# Altium footprint library Unclassified Packages.PcbLib: 12 footprints
Each footprint in its own frame and in the unit in brackets; x right, y up, seen from the top. Pads: shape width x height; smd on the part's side, far side on the other; paste and mask are expansions set on the pad; w line width, h text height; cw(c..) or ccw(c..) is an arc to the next point about the centre after c.
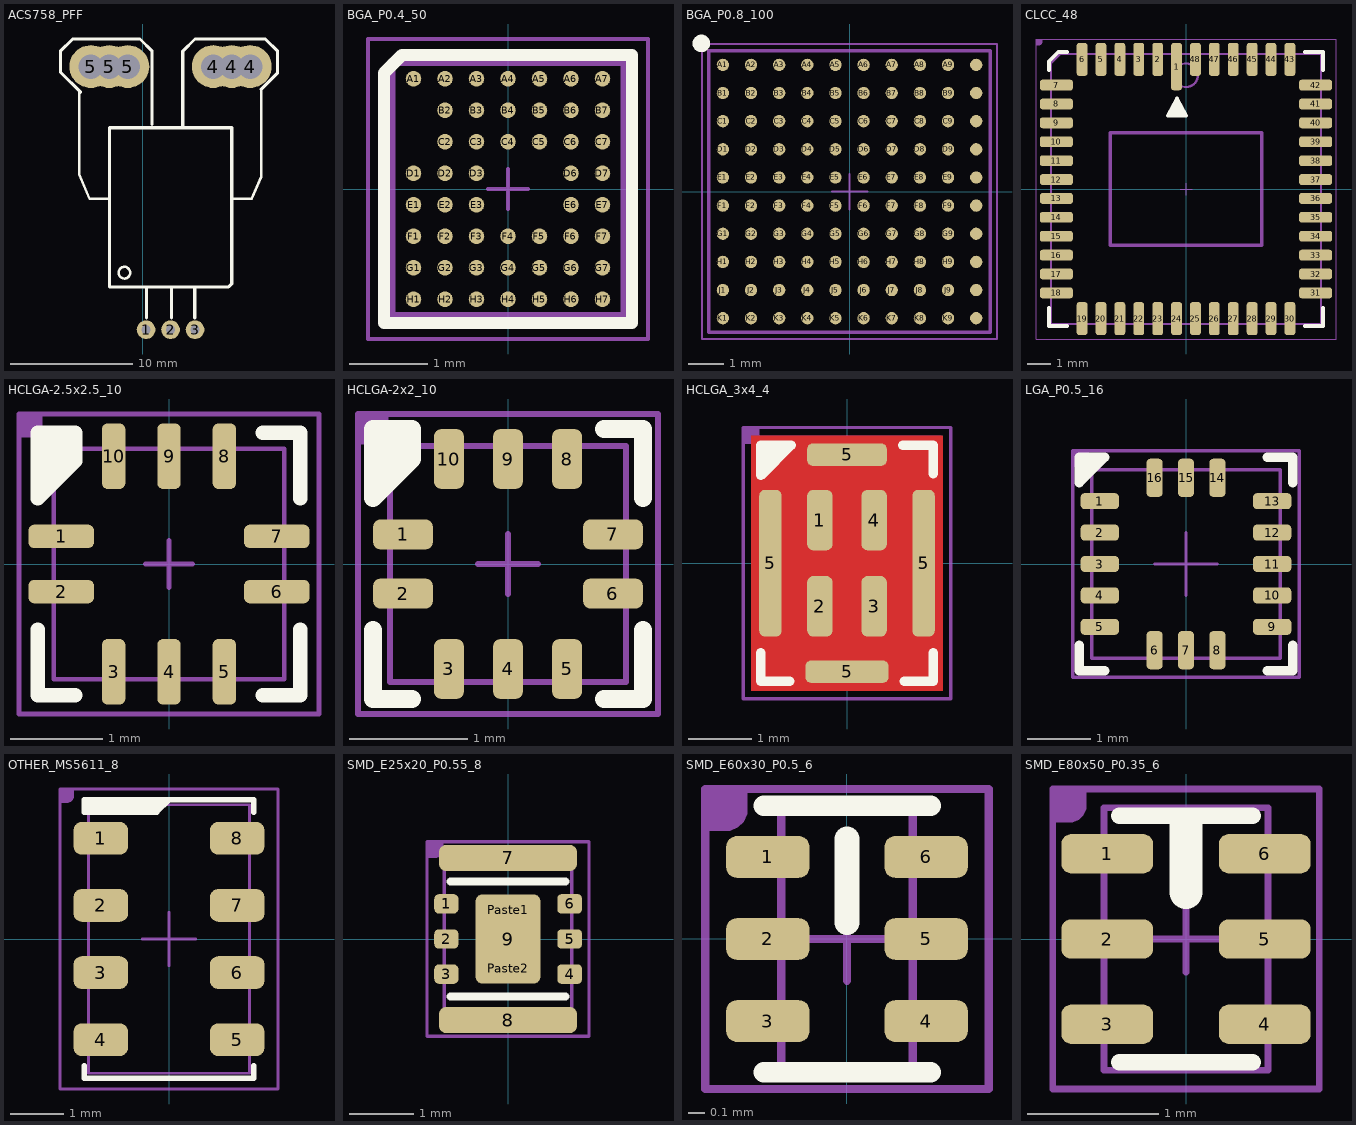
[diagram p0: the footprints below, top view; thin cyan lines are the x and y axes]

## ACS758_PFF [mm]
pads (9):
  round 1.524 hole 0.762: 1(0.25,-34.5) 2(2.25,-34.5) 3(4.25,-34.5)
  oval 3.524x3.5 hole 2: 4(5.75,-13) 4(7.25,-13) 4(8.75,-13) 5(-4.25,-13) 5(-2.75,-13) 5(-1.25,-13)
Top Overlay:
  circle w0.203: c-1.524,-29.845 r0.478
  lines w0.203: -5.207,-14.933 -5.207,-21.816 -4.366,-23.808 -2.866,-23.808 ; 7.369,-23.791 8.894,-23.791 9.652,-21.996 9.652,-14.859
  lines w0.254: -5.5,-14 -5.25,-14.25 ; -5.096,-15.097 -6.75,-13.443 -6.75,-11.75 -5.75,-10.75 -0.25,-10.75 0.75,-11.75 0.75,-17.75 ; 0.28,-33.522 0.28,-31.147 ; 2.317,-33.522 2.317,-31.147 ; 3.25,-18 3.25,-11.75 4.25,-10.75 10,-10.75 11,-11.75 11,-13.511 9.652,-14.859 ; 4.227,-33.522 4.227,-31.147 ; -2.75,-31 7,-31 7.25,-30.75 7.25,-18 -2.75,-18 -2.75,-31
3D body "User Library-ACS758xCB-PFF.STEP": height 8.5, standoff -1.98, extent -4.75,-34.66 9.25,-12.25

## BGA_P0.4_50 [mm]
height 0.4
pads (50):
  round 0.198 smd: A1(-1.2,1.4) A2(-0.8,1.4) A3(-0.4,1.4) A4(0,1.4) A5(0.4,1.4) A6(0.8,1.4) A7(1.2,1.4) B2(-0.8,1) B3(-0.4,1) B4(0,1) B5(0.4,1) B6(0.8,1) B7(1.2,1) C2(-0.8,0.6) C3(-0.4,0.6) C4(0,0.6) C5(0.4,0.6) C6(0.8,0.6) C7(1.2,0.6) D1(-1.2,0.2) D2(-0.8,0.2) D3(-0.4,0.2) D6(0.8,0.2) D7(1.2,0.2) E1(-1.2,-0.2) E2(-0.8,-0.2) E3(-0.4,-0.2) E6(0.8,-0.2) E7(1.2,-0.2) F1(-1.2,-0.6) F2(-0.8,-0.6) F3(-0.4,-0.6) F4(0,-0.6) F5(0.4,-0.6) F6(0.8,-0.6) F7(1.2,-0.6) G1(-1.2,-1) G2(-0.8,-1) G3(-0.4,-1) G4(0,-1) G5(0.4,-1) G6(0.8,-1) G7(1.2,-1) H1(-1.2,-1.4) H2(-0.8,-1.4) H3(-0.4,-1.4) H4(0,-1.4) H5(0.4,-1.4) H6(0.8,-1.4) H7(1.2,-1.4)
Top Overlay:
  lines w0.152: -1.575,-1.702 -1.575,1.473 -1.346,1.702 1.575,1.702 1.575,-1.702 -1.575,-1.702
Mechanical 13:
  lines w0.051: -0.254,0 0.254,0 ; 0,-0.254 0,0.254
  lines w0.1: -1.48,-1.615 -1.48,1.615 1.48,1.615 1.48,-1.615 -1.48,-1.615
Mechanical 14:
  lines w0.051: -1.778,-1.905 -1.778,1.905 1.778,1.905 1.778,-1.905 -1.778,-1.905
3D body "BGA56C40P7X8_296X323X40.step": height 0.4, standoff 0, extent -1.48,-1.615 1.48,1.615

## BGA_P0.8_100 [mm]
height 1.1
pads (100):
  round 0.35 smd: A1(-3.6,3.6) A2(-2.8,3.6) A3(-2,3.6) A4(-1.2,3.6) A5(-0.4,3.6) A6(0.4,3.6) A7(1.2,3.6) A8(2,3.6) A9(2.8,3.6) A10(3.6,3.6) B1(-3.6,2.8) B2(-2.8,2.8) B3(-2,2.8) B4(-1.2,2.8) B5(-0.4,2.8) B6(0.4,2.8) B7(1.2,2.8) B8(2,2.8) B9(2.8,2.8) B10(3.6,2.8) C1(-3.6,2) C2(-2.8,2) C3(-2,2) C4(-1.2,2) C5(-0.4,2) C6(0.4,2) C7(1.2,2) C8(2,2) C9(2.8,2) C10(3.6,2) D1(-3.6,1.2) D2(-2.8,1.2) D3(-2,1.2) D4(-1.2,1.2) D5(-0.4,1.2) D6(0.4,1.2) D7(1.2,1.2) D8(2,1.2) D9(2.8,1.2) D10(3.6,1.2) E1(-3.6,0.4) E2(-2.8,0.4) E3(-2,0.4) E4(-1.2,0.4) E5(-0.4,0.4) E6(0.4,0.4) E7(1.2,0.4) E8(2,0.4) E9(2.8,0.4) E10(3.6,0.4) F1(-3.6,-0.4) F2(-2.8,-0.4) F3(-2,-0.4) F4(-1.2,-0.4) F5(-0.4,-0.4) F6(0.4,-0.4) F7(1.2,-0.4) F8(2,-0.4) F9(2.8,-0.4) F10(3.6,-0.4) G1(-3.6,-1.2) G2(-2.8,-1.2) G3(-2,-1.2) G4(-1.2,-1.2) G5(-0.4,-1.2) G6(0.4,-1.2) G7(1.2,-1.2) G8(2,-1.2) G9(2.8,-1.2) G10(3.6,-1.2) H1(-3.6,-2) H2(-2.8,-2) H3(-2,-2) H4(-1.2,-2) H5(-0.4,-2) H6(0.4,-2) H7(1.2,-2) H8(2,-2) H9(2.8,-2) H10(3.6,-2) J1(-3.6,-2.8) J2(-2.8,-2.8) J3(-2,-2.8) J4(-1.2,-2.8) J5(-0.4,-2.8) J6(0.4,-2.8) J7(1.2,-2.8) J8(2,-2.8) J9(2.8,-2.8) J10(3.6,-2.8) K1(-3.6,-3.6) K2(-2.8,-3.6) K3(-2,-3.6) K4(-1.2,-3.6) K5(-0.4,-3.6) K6(0.4,-3.6) K7(1.2,-3.6) K8(2,-3.6) K9(2.8,-3.6) K10(3.6,-3.6)
Top Overlay:
  circle w0.25: c-4.21,4.21 r0.125
Mechanical 13:
  lines w0.1: -4,-4 -4,4 4,4 4,-4 -4,-4
Mechanical 14:
  lines w0.051: -0.508,0 0.508,0 ; 0,-0.508 0,0.508 ; -4.191,-4.191 -4.191,4.191 4.191,4.191 4.191,-4.191 -4.191,-4.191
3D body "BGA100C80P10X10_800X800X110.step": height 1.1, standoff 0, extent -4,-4 4,4

## CLCC_48 [mil]
height 90.55
pads (48):
  rrect50% 18x79 smd: 1(-15.75,204)
  rrect50% 18x55 smd: 2(-47.24,216) 3(-78.74,216) 4(-110.24,216) 5(-141.73,216) 6(-173.23,216) 19(-173.23,-216) 20(-141.73,-216) 21(-110.24,-216) 22(-78.74,-216) 23(-47.24,-216) 24(-15.75,-216) 25(15.75,-216) 26(47.24,-216) 27(78.74,-216) 28(110.24,-216) 29(141.73,-216) 30(173.23,-216) 43(173.23,216) 44(141.73,216) 45(110.24,216) 46(78.74,216) 47(47.24,216) 48(15.75,216)
  rrect50% 55x18 smd: 7(-216,173.23) 8(-216,141.73) 9(-216,110.24) 10(-216,78.74) 11(-216,47.24) 12(-216,15.75) 13(-216,-15.75) 14(-216,-47.24) 15(-216,-78.74) 16(-216,-110.24) 17(-216,-141.73) 18(-216,-173.23) 31(216,-173.23) 32(216,-141.73) 33(216,-110.24) 34(216,-78.74) 35(216,-47.24) 36(216,-15.75) 37(216,15.75) 38(216,47.24) 39(216,78.74) 40(216,110.24) 41(216,141.73) 42(216,173.23)
Top Overlay:
  region: -15,151 -30.26,122 0.26,122
  lines w6: -228.35,-197.83 -228.35,-228.35 -197.83,-228.35 ; -228.35,197.83 -228.35,213.09 -213.09,228.35 -197.83,228.35 ; 197.83,-228.35 228.35,-228.35 228.35,-197.83 ; 197.83,228.35 228.35,228.35 228.35,197.83 ; -30.26,122 0.26,122 -15,151 -30.26,122
Mechanical 13:
  circle w3.94: c0,189.57 r19.68
  lines w2: -10,0 10,0 ; 0,-10 0,10
  lines w3.94: -225,-225 -225,209.74 -209.74,225 225,225 225,-225 -225,-225
  lines w6: -126,-94 -126,94 126,94 126,-94 -126,-94
Mechanical 14:
  region: -250,250 -240,250 -240,245 -240,244.01 -240.76,242.17 -242.17,240.76 -244.01,240 -245,240 -250,240
  lines w2: -250,-250 250,-250 250,250 -250,250 -250,-250
  text ".Designator" at -41,-25 h100
3D body "User Library-CLCC48.STEP": height 79.69, standoff 0, extent -250,-250 250,250

## HCLGA-2.5x2.5_10 [mil]
height 31.5
pads (10):
  rrect50% 28x10 smd: 1(-46,11.81) 2(-46,-11.81) 6(46,-11.81) 7(46,11.81)
  rrect50% 10x28 smd: 3(-23.62,-46) 4(0,-46) 5(23.62,-46) 8(23.62,46) 9(0,46) 10(-23.62,46)
Top Overlay:
  region: -40,44 -40,56 -56,56 -56,28
  lines w6: -56,-28 -56,-56 -40,-56 ; 40,-56 56,-56 56,-28 ; 40,56 56,56 56,28 ; -56,28 -40,44 -40,56 -56,56 -56,28
Top Solder:
  rectangle: -23.62,32 23.62,60
  region: 23.62,-32 -23.62,-32 -23.62,-60 23.62,-60
  region: 60,-11.81 60,11.81 32,11.81 32,-11.81
  region: -32,-11.81 -32,11.81 -60,11.81 -60,-11.81
Mechanical 13:
  lines w2: -10,0 10,0 ; 0,-10 0,10 ; -49.21,-49.21 -49.21,49.22 49.22,49.22 49.22,-49.21 -49.21,-49.21
Mechanical 14:
  region: -64,64 -54,64 -54,59 -54,58.01 -54.76,56.17 -56.17,54.76 -58.01,54 -59,54 -64,54
  lines w2: -64,-64 -64,64 64,64 64,-64 -64,-64
  text ".Designator" at -41,-25 h100
3D body "PQFN60P250X250X80-10N.step": height 31.5, standoff -0.04, extent -49.21,-49.21 49.22,49.22

## HCLGA-2x2_10 [mil]
height 31.5
pads (10):
  rrect50% 20x10 smd: 1(-35,9.84) 2(-35,-9.84) 6(35,-9.84) 7(35,9.84)
  rrect50% 10x20 smd: 3(-19.68,-35) 4(0,-35) 5(19.68,-35) 8(19.68,35) 9(0,35) 10(-19.68,35)
Top Overlay:
  region: -32,45 -45,45 -45,22 -32,35
  lines w6: -45,-22 -45,-45 -32,-45 ; 32,-45 45,-45 45,-22 ; 32,45 45,45 45,22 ; -45,22 -32,35 -32,45 -45,45 -45,22
Top Solder:
  rectangle: -19.68,-45 19.68,-25
  region: 19.68,45 -19.68,45 -19.68,25 19.68,25
  region: 45,-9.84 45,9.84 25,9.84 25,-9.84
  region: -25,-9.84 -25,9.84 -45,9.84 -45,-9.84
Mechanical 13:
  lines w2: -10,0 10,0 ; 0,-10 0,10 ; -39.37,-39.37 39.37,-39.37 39.37,39.37 -39.37,39.37 -39.37,-39.37
Mechanical 14:
  region: -50,50 -40,50 -40,45 -40,44.01 -40.76,42.17 -42.17,40.76 -44.01,40 -45,40 -50,40
  lines w2: -50,-50 50,-50 50,50 -50,50 -50,-50
  text ".Designator" at -41,-25 h100
3D body "PQFN50P200X200X80-10N.step": height 31.5, standoff -0.04, extent -39.37,-39.37 39.37,39.37

## HCLGA_3x4_4 [mil]
pads (8):
  rrect50% 16x38 smd: 1(-17,27) 2(-17,-27) 3(17,-27) 4(17,27)
  rrect50% 14x92 smd: 5(-48,0) 5(48,0)
  rrect50% 52x14 smd: 5(0,-68)
  rrect50% 50x14 smd: 5(0,68)
Top Layer:
  pour cut-out: -60,80 60,80 60,-80 -60,-80
Top Overlay:
  region: -54,74 -35,74 -54,55
  lines w6: -54,-56 -54,-74 -36,-74 ; 35,74 54,74 54,56 ; 36,-74 54,-74 54,-56 ; -54,55 -54,74 -35,74 -54,55
Mechanical 13:
  lines w2: -10,0 10,0 ; 0,-10 0,10 ; -59,-79 59,-79 59,79 -59,79 -59,-79
Mechanical 14:
  region: -65,85 -55,85 -55,80 -55,79.01 -55.76,77.17 -57.17,75.76 -59.01,75 -60,75 -65,75
  lines w2: -65,-85 -65,85 65,85 65,-85 -65,-85
  text ".Designator" at -41,-25 h100
3D body "User Library-DFN12(3x4).STEP": height 29.92, standoff 0, extent -59.08,-78.74 59.1,78.74

## LGA_P0.5_16 [mil]
height 29.53
pads (16):
  rrect50% 24x10 smd: 1(-54,39.37) 2(-54,19.68) 3(-54,0) 4(-54,-19.68) 5(-54,-39.37) 9(54,-39.37) 10(54,-19.68) 11(54,0) 12(54,19.68) 13(54,39.37)
  rrect50% 10x24 smd: 6(-19.68,-54) 7(0,-54) 8(19.68,-54) 14(19.68,54) 15(0,54) 16(-19.68,54)
Top Overlay:
  region: -67,67 -51,67 -67,51
  lines w6: -67,-51 -67,-67 -51,-67 ; 51,-67 67,-67 67,-51 ; 51,67 67,67 67,51 ; -67,51 -67,67 -51,67 -67,51
Top Solder:
  region: 20,-41 -20,-41 -20,-67 20,-67
  region: -41,-40 -41,40 -67,40 -67,-40
  region: 41,40 41,-40 67,-40 67,40
  rectangle: -20,41 20,67
Mechanical 13:
  lines w2: -19.68,0 19.68,0 ; 0,-19.68 0,19.68 ; -59.06,-59.06 59.06,-59.06 59.06,59.06 -59.06,59.06 -59.06,-59.06
Mechanical 14:
  region: -71,71 -61,71 -61,66 -61,65.01 -61.76,63.17 -63.17,61.76 -65.01,61 -66,61 -71,61
  lines w2: -71,-71 71,-71 71,71 -71,71 -71,-71
  text ".Designator" at -41,-25 h100
3D body "PQFN50P300X300X75-16L.step": height 29.53, standoff 0, extent -59.06,-59.06 59.06,59.06

## OTHER_MS5611_8 [mil]
height 39.37
pads (8):
  rrect50% 40x24 smd: 1(-50,73.82) 2(-50,24.61) 3(-50,-24.61) 4(-50,-73.82) 5(50,-73.82) 6(50,-24.61) 7(50,24.61) 8(50,73.82)
Top Overlay:
  region: -62,102 0,102 -9,93 -62,93
  lines w4: -62,-93 -62,-102 62,-102 62,-93 ; 0,102 -9,93 -62,93 -62,102 62,102 62,93
Mechanical 13:
  lines w2: -19.68,0 19.68,0 ; 0,-19.68 0,19.68 ; -59.06,-98.43 59.06,-98.43 59.06,98.43 -59.06,98.43 -59.06,-98.43
Mechanical 14:
  region: -80,110 -70,110 -70,105 -70,104.01 -70.76,102.17 -72.17,100.76 -74.01,100 -75,100 -80,100
  lines w2: -80,-110 -80,110 80,110 80,-110 -80,-110
  text ".Designator" at -41,-25 h100
3D body "User Library-CRYSTALSMD5X32.STEP": height 39.37, standoff 0, extent -62.99,-98.43 63,98.43

## SMD_E25x20_P0.55_8 [mil]
pads (11):
  rrect50% 15x12 smd mask+0: 1(-38,21.65) 2(-38,0) 3(-38,-21.65)
  rrect40% 15x12 smd mask+0: 4(38,-21.65) 5(38,0) 6(38,21.65)
  rrect50% 85x16 smd paste+0 mask+0: 7(0,50)
  rrect50% 85x16 smd mask+0: 8(0,-50)
  rrect20% 40x55 smd paste-55 mask+0: 9(0,0)
  rrect20% 36x16 on Top Paste mask+1.97: Paste1(0,18) Paste2(0,-18)
Top Overlay:
  lines w5: -35.43,-35.43 35.43,-35.43 ; -35.43,35.43 35.43,35.43
Mechanical 13:
  lines w2: -10,0 10,0 ; 0,-10 0,10 ; -39.37,-49.21 39.37,-49.21 39.37,49.21 -39.37,49.21 -39.37,-49.21
Mechanical 14:
  region: -50,60 -40,60 -40,55 -40,54.01 -40.76,52.17 -42.17,50.76 -44.01,50 -45,50 -50,50
  lines w2: -50,-60 -50,60 50,60 50,-60 -50,-60
  text ".Designator" at -25,-15 h60
3D body "User Library-Osc KC2520.STEP": height 31.1, standoff 0, extent -39.36,-49.22 39.37,49.21

## SMD_E60x30_P0.5_6 [mil]
pads (6):
  rrect50% 20x10 smd: 1(-19,19.69) 2(-19,0) 3(-19,-19.68) 4(19,-19.68) 5(19,0) 6(19,19.69)
Top Overlay:
  lines w5: -20,-32 20,-32 ; -20,32 20,32
  lines w6: 0,4 0,24
Mechanical 13:
  lines w2: -10,0 10,0 ; 0,-10 0,10 ; 15.75,-31.5 15.75,31.5 -15.75,31.5 -15.75,-31.5 15.75,-31.5 ; 15.75,-31.5 15.75,-31.5
Mechanical 14:
  region: -34,36 -24,36 -24,31 -24,30.01 -24.76,28.17 -26.17,26.76 -28.01,26 -29,26 -34,26
  lines w2: -34,-36 -34,36 34,36 34,-36 -34,-36
  text ".Designator" at -25,-15 h60
3D body: height 24.41, standoff 0, extent -15.95,-23.62 -10.04,-15.74
3D body: height 24.41, standoff 0, extent -1.38,15.75 1.77,23.63
3D body: height 24.41, standoff 0, extent 10.42,15.75 16.33,23.62
3D body: height 24.41, standoff 0, extent 10.42,-3.94 16.33,3.94
3D body: height 24.41, standoff 0, extent 10.42,-23.62 16.33,-15.75
3D body: height 24.41, standoff 0, extent -15.95,-3.93 -10.04,3.94
3D body: height 24.41, standoff 0, extent -15.95,15.76 -10.04,23.63
3D body: height 23.62, standoff 0, extent -15.75,-31.49 15.74,31.5

## SMD_E80x50_P0.35_6 [mm]
pads (6):
  rrect50% 0.7x0.3 smd mask+0.05: 1(-0.6,0.65) 2(-0.6,0) 3(-0.6,-0.65) 4(0.6,-0.65) 5(0.6,0) 6(0.6,0.65)
Top Overlay:
  lines w0.127: -0.508,-0.94 0.508,-0.94 ; -0.508,0.94 0.508,0.94
  lines w0.254: 0,0.356 0,0.864
Mechanical 13:
  lines w0.051: -0.625,-1 0.625,-1 0.625,1 ; -0.254,0 0.254,0 ; 0,-0.254 0,0.254 ; -0.625,1 -0.625,-1 -0.625,1 ; -0.625,1 0.625,1 ; -0.625,1 0.625,1
Mechanical 14:
  region: -1.016,1.143 -0.762,1.143 -0.762,1.016 -0.762,0.991 -0.781,0.944 -0.817,0.908 -0.864,0.889 -0.889,0.889 -1.016,0.889
  lines w0.051: -1.016,-1.143 1.016,-1.143 1.016,1.143 -1.016,1.143 -1.016,-1.143
  text ".Designator" at -0.635,-0.381 h1.52
3D body "User Library-1600BL15B100E.STEP": height 0.87, standoff 0.01, extent -0.635,-1 0.635,1